# Altium footprint library 3296W.PcbLib: 1 footprints
Each footprint in its own frame and in the unit in brackets; x right, y up, seen from the top. Pads: shape width x height; smd on the part's side, far side on the other; paste and mask are expansions set on the pad; w line width, h text height; cw(c..) or ccw(c..) is an arc to the next point about the centre after c.
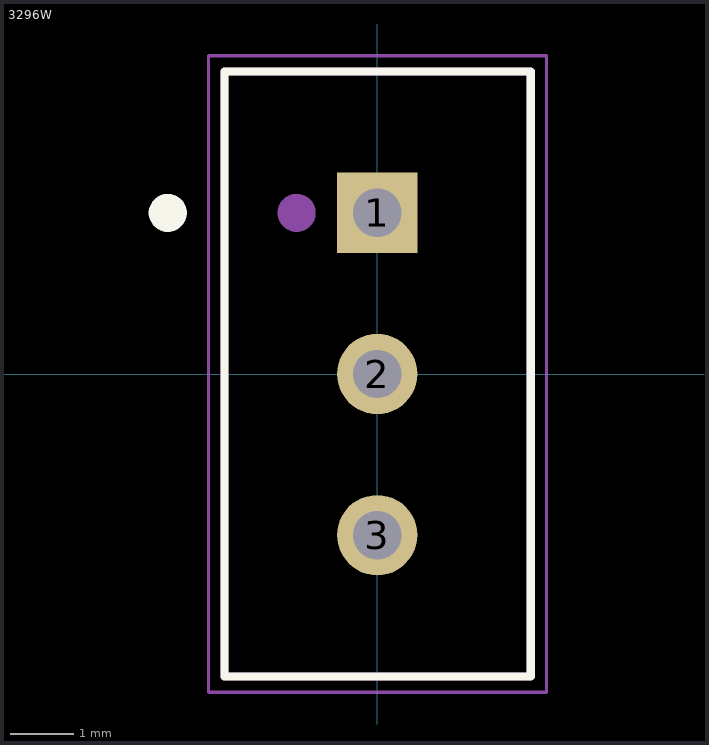
[diagram p0: the footprint, top view; thin cyan lines are the x and y axes]

## 3296W [mm]
pads (3):
  rect 1.268x1.268 hole 0.76: 1(0,2.54)
  round 1.268 hole 0.76: 2(0,0) 3(0,-2.54)
Top Overlay:
  circle w0.4: c-3.302,2.54 r0.1
  lines w0.127: -2.41,-4.765 -2.41,4.765 2.42,4.765 2.42,-4.765 -2.41,-4.765
Mechanical 4:
  circle w0.4: c-1.27,2.54 r0.1
  circle w0.4: c-1.27,2.54 r0.1
  lines w0.127: -2.41,-4.765 2.42,-4.765 ; -2.41,-4.765 -2.41,4.765 ; -2.41,-4.765 2.42,-4.765 ; -2.41,-4.765 -2.41,4.765 ; -2.41,4.765 2.42,4.765 ; -2.41,4.765 2.42,4.765 ; 2.42,-4.765 2.42,4.765 ; 2.42,-4.765 2.42,4.765
Mechanical 16:
  lines w0.05: -2.66,-5.015 2.67,-5.015 2.67,5.015 -2.66,5.015 -2.66,-5.015
3D body "Trimpot_3296W.SLDPRT": height 11.55, standoff -2.6, extent -2.415,-4.765 2.415,4.765